# EAGLE library part 24PINCONVERTER (library 24_Pin_Connector)
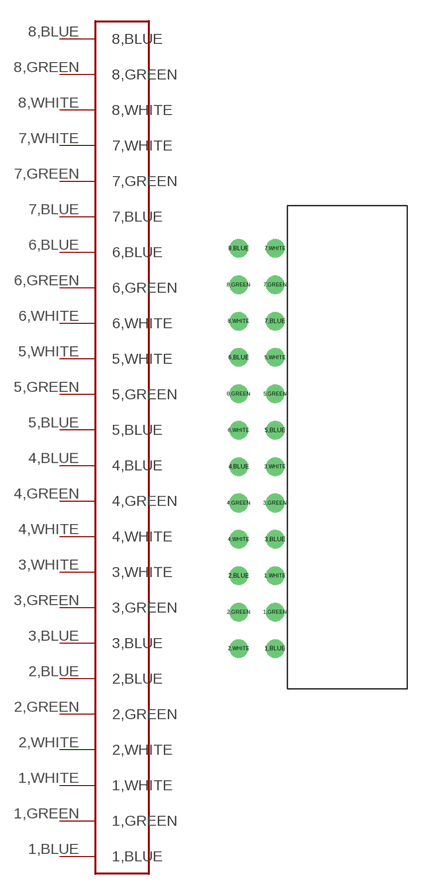
[diagram p0: symbol with the pads of 24PINCONVERTER; footprint 24PINCONVERTER]

Designator prefix -

## 24PINCONVERTER  [24PINCONVERTER]
1,BLUE  1,BLUE
1,GREEN  1,GREEN
1,WHITE  1,WHITE
2,BLUE  2,BLUE
2,GREEN  2,GREEN
2,WHITE  2,WHITE
3,BLUE  3,BLUE
3,GREEN  3,GREEN
3,WHITE  3,WHITE
4,BLUE  4,BLUE
4,GREEN  4,GREEN
4,WHITE  4,WHITE
5,BLUE  5,BLUE
5,GREEN  5,GREEN
5,WHITE  5,WHITE
6,BLUE  6,BLUE
6,GREEN  6,GREEN
6,WHITE  6,WHITE
7,BLUE  7,BLUE
7,GREEN  7,GREEN
7,WHITE  7,WHITE
8,BLUE  8,BLUE
8,GREEN  8,GREEN
8,WHITE  8,WHITE

## Footprint 24PINCONVERTER (pad centres in mm)
drill 1.02: 1,BLUE 3,0; 1,GREEN 3,3; 1,WHITE 3,6; 2,BLUE 0,6; 2,GREEN 0,3; 2,WHITE 0,0; 3,BLUE 3,9; 3,GREEN 3,12; 3,WHITE 3,15; 4,BLUE 0,15; 4,GREEN 0,12; 4,WHITE 0,9; 5,BLUE 3,18; 5,GREEN 3,21; 5,WHITE 3,24; 6,BLUE 0,24; 6,GREEN 0,21; 6,WHITE 0,18; 7,BLUE 3,27; 7,GREEN 3,30; 7,WHITE 3,33; 8,BLUE 0,33; 8,GREEN 0,30; 8,WHITE 0,27